# Altium footprint library Components - 25.03.23 - 22.18.PcbLib: 1 footprints
Each footprint in its own frame and in the unit in brackets; x right, y up, seen from the top. Pads: shape width x height; smd on the part's side, far side on the other; paste and mask are expansions set on the pad; w line width, h text height; cw(c..) or ccw(c..) is an arc to the next point about the centre after c.
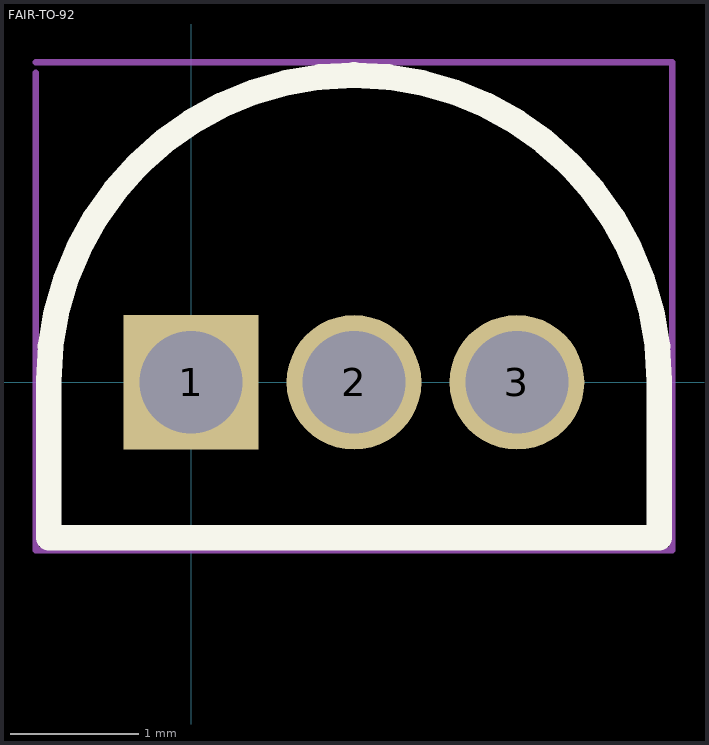
[diagram p0: the footprint, top view; thin cyan lines are the x and y axes]

## FAIR-TO-92 [mm] "TO, 3-Leads, Body Dia 4.79mm, Pitch 1.27mm"
height 5.33
pads (3):
  rect 1.05x1.05 hole 0.8 mask+0.05: 1(0,0)
  round 1.05 hole 0.8 mask+0.05: 2(1.27,0) 3(2.54,0)
Top Overlay:
  lines w0.2: -1.11,-1.21 3.65,-1.21 3.65,0.015 ccw(c1.27,0.015) -1.11,0.015 -1.11,-1.21
Mechanical 13:
  lines w0.1: -1.11,-1.21 3.65,-1.21 3.65,0.015 ccw(c1.27,0.015) -1.11,0.015 -1.11,-1.21
Mechanical 15:
  lines w0.05: -1.21,2.413 -1.21,-1.31 3.75,-1.31 3.75,2.495 -1.21,2.495
3D body: height 5.33, standoff 0, extent -1.111,-1.211 3.651,2.396